# EAGLE library part STM8L051 (library Deegou_IC)
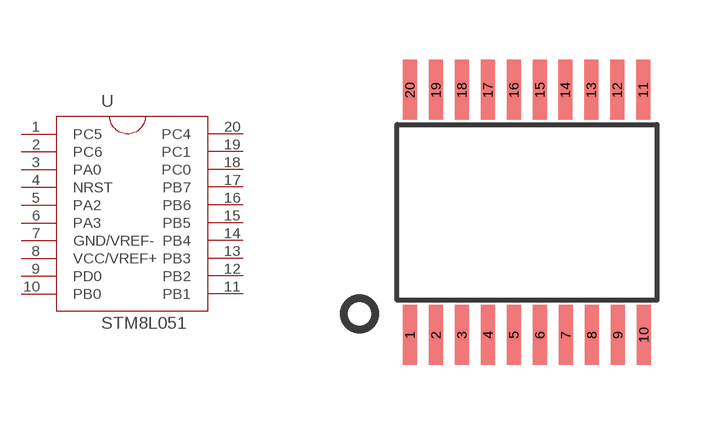
[diagram p59: symbol with the pads of TSSOP20; footprint TSSOP20]

Designator prefix U

## STM8L051  [TSSOP20]
1  PC5
2  PC6
3  PA0
4  NRST
5  PA2
6  PA3
7  GND/VREF-
8  VCC/VREF+
9  PD0
10  PB0
11  PB1
12  PB2
13  PB3
14  PB4
15  PB5
16  PB6
17  PB7
18  PC0
19  PC1
20  PC4

## Footprint TSSOP20 (pad centres in mm)
smd 0.35 x 1.5: 1 -2.925,-3.065; 2 -2.275,-3.065; 3 -1.625,-3.065; 4 -0.975,-3.065; 5 -0.325,-3.065; 6 0.325,-3.065; 7 0.975,-3.065; 8 1.625,-3.065; 9 2.275,-3.065; 10 2.925,-3.065; 11 2.91,3.065; 12 2.26,3.065; 13 1.61,3.065; 14 0.96,3.065; 15 0.325,3.065; 16 -0.325,3.065; 17 -0.975,3.065; 18 -1.625,3.065; 19 -2.275,3.065; 20 -2.925,3.065